# Altium footprint library E48SC12030NRFH.PcbLib: 1 footprints
Each footprint in its own frame and in the unit in brackets; x right, y up, seen from the top. Pads: shape width x height; smd on the part's side, far side on the other; paste and mask are expansions set on the pad; w line width, h text height; cw(c..) or ccw(c..) is an arc to the next point about the centre after c.
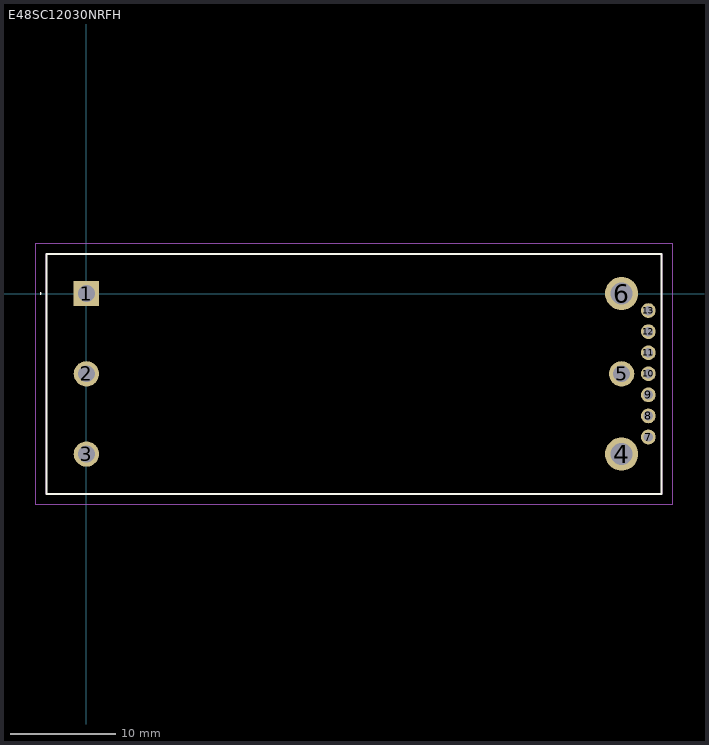
[diagram p0: the footprint, top view; thin cyan lines are the x and y axes]

## E48SC12030NRFH [mm]
pads (13):
  rect 2.4x2.4 hole 1.6: 1(0,0)
  round 2.4 hole 1.6: 2(0,-7.62) 3(0,-15.24) 5(50.8,-7.62)
  round 3.15 hole 2.1: 4(50.8,-15.24) 6(50.8,0)
  round 1.4 hole 0.9: 7(53.34,-13.62) 8(53.34,-11.62) 9(53.34,-9.62) 10(53.34,-7.62) 11(53.34,-5.62) 12(53.34,-3.62) 13(53.34,-1.62)
Top Overlay:
  lines w0.1: -4.4,0 -4.4,0 ; -4.4,0 ccw(c-4.35,0) -4.3,0 ; -4.4,0 cw(c-4.35,0) -4.3,0 ; -4.3,0 -4.3,0
  lines w0.2: -3.8,-19.04 54.6,-19.04 54.6,3.76 -3.8,3.76 -3.8,-19.04
Mechanical 15:
  lines w0.1: -3.8,-19.04 54.6,-19.04 54.6,3.76 -3.8,3.76 -3.8,-19.04
Mechanical 20:
  lines w0.1: -4.8,-20.04 55.6,-20.04 55.6,4.76 -4.8,4.76 -4.8,-20.04